# Altium schematic symbol library PHOENIX_COMBICON_DMCV.Schlib: 2 symbols
Pins are listed as number, name and electrical type; pins without a type are passive.

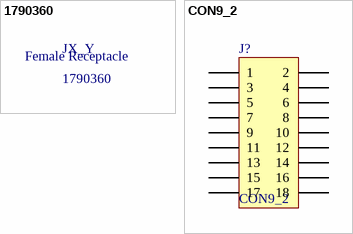
[diagram p0: symbols 1790360 to CON9_2]

## 1790360
designator JX_Y
text: Female Receptacle

## CON9_2
designator J?
pins: 1, 2, 3, 4, 5, 6, 7, 8, 9, 10, 11, 12, 13, 14, 15, 16, 17, 18